# Altium integrated library WR-FSH_rev15a.intlib: 7 symbols
Pins are listed as number, name and electrical type; pins without a type are passive.

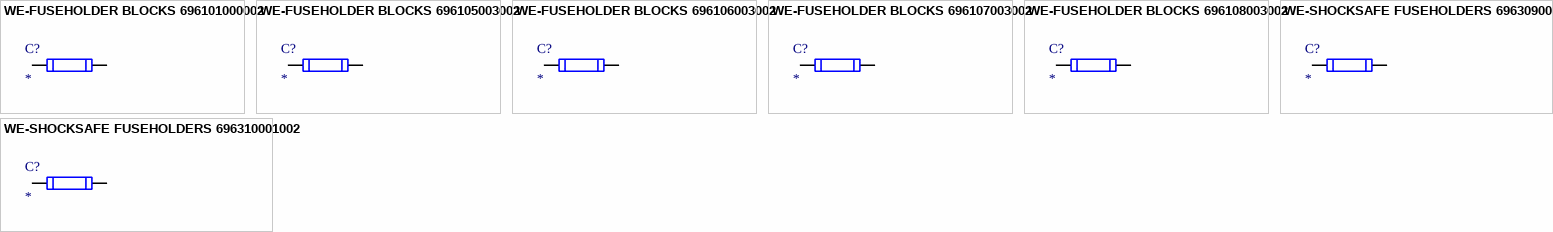
[diagram p0: symbols WE-FUSEHOLDER BLOCKS 696101000002 to WE-SHOCKSAFE FUSEHOLDERS 696310001002]

## WE-FUSEHOLDER BLOCKS 696101000002
designator C?
FUSEHOLDER BLOCKS - PCB - CLIP COVER - THT - WR-FSH; Manufacturer: Würth Elektronik eiSos GmbH; partNo: 696101000002; ComponentLink1 Description: Manufacturer; ComponentLink2 Description: Datasheet; NoPins: 2; ComponentLink1URL: http://www.we-online.de; ComponentLink2URL: http://katalog.we-online.de/em/datasheet/696101000002.pdf; Created by: Karrer Zheng; Created Date: 11/7/2014
footprint 696101000002
pins: 1, 2

## WE-FUSEHOLDER BLOCKS 696105003002
designator C?
FUSEHOLDER BLOCKS - PCB - CLIP COVER - THT - WR-FSH; Manufacturer: Würth Elektronik eiSos GmbH; partNo: 696105003002; ComponentLink1 Description: Manufacturer; ComponentLink2 Description: Datasheet; NoPins: 2; ComponentLink1URL: http://www.we-online.de; ComponentLink2URL: http://katalog.we-online.de/em/datasheet/696105003002.pdf; Created by: Karrer Zheng; Created Date: 11/8/2014
footprint 696105003002
pins: 1, 2

## WE-FUSEHOLDER BLOCKS 696106003002
designator C?
FUSEHOLDER BLOCKS - PCB - CLIP COVER - THT - WR-FSH; Manufacturer: Würth Elektronik eiSos GmbH; partNo: 696106003002; ComponentLink1 Description: Manufacturer; ComponentLink2 Description: Datasheet; NoPins: 2; ComponentLink1URL: http://www.we-online.de; ComponentLink2URL: http://katalog.we-online.de/em/datasheet/696106003002.pdf; Created by: Karrer Zheng; Created Date: 11/9/2014
footprint 696106003002
pins: 1, 2

## WE-FUSEHOLDER BLOCKS 696107003002
designator C?
FUSEHOLDER BLOCKS - PCB - CLIP COVER - THT - WR-FSH; Manufacturer: Würth Elektronik eiSos GmbH; partNo: 696107003002; ComponentLink1 Description: Manufacturer; ComponentLink2 Description: Datasheet; NoPins: 2; ComponentLink1URL: http://www.we-online.de; ComponentLink2URL: http://katalog.we-online.de/em/datasheet/696107003002.pdf; Created by: Karrer Zheng; Created Date: 11/10/2014
footprint 696107003002
pins: 1, 2

## WE-FUSEHOLDER BLOCKS 696108003002
designator C?
FUSEHOLDER BLOCKS - PCB - CLIP COVER - THT - WR-FSH; Manufacturer: Würth Elektronik eiSos GmbH; partNo: 696108003002; ComponentLink1 Description: Manufacturer; ComponentLink2 Description: Datasheet; NoPins: 2; ComponentLink1URL: http://www.we-online.de; ComponentLink2URL: http://katalog.we-online.de/em/datasheet/696108003002.pdf; Created by: Karrer Zheng; Created Date: 11/11/2014
footprint 696108003002
pins: 1, 2

## WE-SHOCKSAFE FUSEHOLDERS 696309001002
designator C?
SHOCKSAFE FUSEHOLDERS - PCB - TURN’N LOCK COVER - THT - WR-FSH; Manufacturer: Würth Elektronik eiSos GmbH; partNo: 696309001002; ComponentLink1 Description: Manufacturer; ComponentLink2 Description: Datasheet; NoPins: 2; ComponentLink1URL: http://www.we-online.de; ComponentLink2URL: http://katalog.we-online.de/em/datasheet/696309001002.pdf; Created by: Karrer Zheng; Created Date: 11/16/2014
footprint 696309001002
pins: 1, 2

## WE-SHOCKSAFE FUSEHOLDERS 696310001002
designator C?
SHOCKSAFE FUSEHOLDERS - PCB - TURN’N LOCK COVER - THT - WR-FSH; Manufacturer: Würth Elektronik eiSos GmbH; partNo: 696310001002; ComponentLink1 Description: Manufacturer; ComponentLink2 Description: Datasheet; NoPins: 2; ComponentLink1URL: http://www.we-online.de; ComponentLink2URL: http://katalog.we-online.de/em/datasheet/696310001002.pdf; Created by: Karrer Zheng; Created Date: 11/17/2014
footprint 696310001002
pins: 1, 2